# Altium schematic symbol library Resistors-0805.SchLib: 3 symbols
Pins are listed as number, name and electrical type; pins without a type are passive.

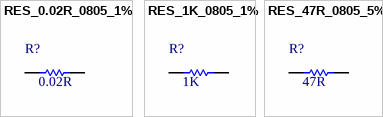
[diagram p0: symbols RES_0.02R_0805_1% to RES_47R_0805_5%]

## RES_0.02R_0805_1%
designator R?, comment value 0.02R  (hidden comment: 0.02R 1% 0805)
0.02R 0.5W 1% 0805 (2012 Metric); Manufacturer: Bourns; PartNumber: CRF0805-FZ-R020ELF; Tolerance: 1%; Power: 0.5W; Mounting Technology: Surface Mount; PackageReference: 0805; PackageDescription: 0805 (2012 Metric)
footprint R0805[2012] (Chip Resistor, Body 2.0x1.25mm)
pins: 1, 2

## RES_1K_0805_1%
designator R?, comment value 1K  (hidden comment: 1K 1% 0805)
1K 0.5W 1% 0805 (2012 Metric); Manufacturer: Panasonic; PartNumber: ERJ-P06F1001V; Tolerance: 1%; Power: 0.5W; Mounting Technology: Surface Mount; PackageReference: 0805; PackageDescription: 0805 (2012 Metric); ComponentLink1Description: Datasheet; ComponentLink1URL: https://industrial.panasonic.com/cdbs/www-data/pdf/RDA0000/AOA0000C243.pdf
footprint R0805[2012] (Chip Resistor, Body 2.0x1.25mm)
pins: 1, 2

## RES_47R_0805_5%
designator R?, comment value 47R  (hidden comment: 47R 5% 0805)
47R 0.5W 5% 0805 (2012 Metric); Manufacturer: Panasonic; PartNumber: ERJ-P06J470V; Tolerance: 5%; Power: 0.5W; Mounting Technology: Surface Mount; PackageReference: 0805; PackageDescription: 0805 (2012 Metric); ComponentLink1Description: Datasheet; ComponentLink1URL: https://industrial.panasonic.com/cdbs/www-data/pdf/RDA0000/AOA0000C243.pdf
footprint R0805[2012] (Chip Resistor, Body 2.0x1.25mm)
pins: 1, 2